# Altium footprint library ch55x.PcbLib: 25 footprints (part 2 of 2)
Each footprint in its own frame and in the unit in brackets; x right, y up, seen from the top. Pads: shape width x height; smd on the part's side, far side on the other; paste and mask are expansions set on the pad; w line width, h text height; cw(c..) or ccw(c..) is an arc to the next point about the centre after c.
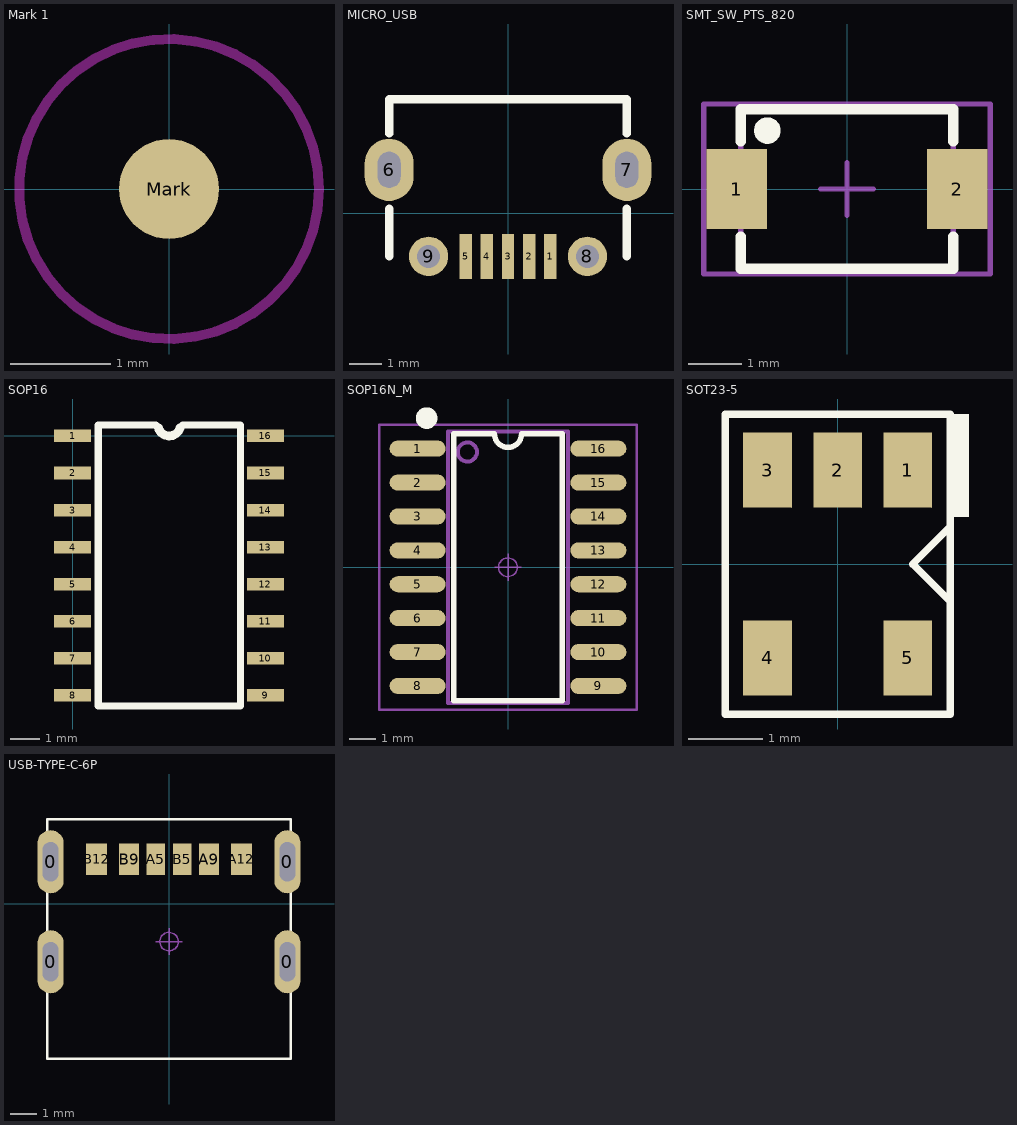
[diagram p1: the footprints below, top view; thin cyan lines are the x and y axes]

## Mark 1 [mm] "光学定位点，直径1mm"
pads (1):
  round 1 smd paste-1 mask+0.7: Mark(0,0)
Keep-Out Layer:
  circle w0.1: c0,0 r1.5

## MICRO_USB [mil]
pads (9):
  rect 15x54 smd: 1(51,-52) 2(25.5,-52) 3(0,-52) 4(-25.5,-52) 5(-51,-52)
  oval 59.06x74.8 hole 27.56 slot 43.31 at 90 deg: 6(-143,52) 7(143,52)
  round 47.24 hole 27.5: 8(95.5,-52) 9(-95.5,-52)
Top Overlay:
  lines w10: -142.72,-52 -142.72,5.28 ; -142.72,95.72 -142.72,136.98 142.72,136.98 142.72,95.72 ; 142.72,-52 142.72,5.28
3D body "User Library-Micro USB-B_Molex_105017-0001.step": height 105.31, standoff -24.61, extent -161.42,-61.33 161.41,152.44

## PCBComponent_1 [mm]

## PCBComponent_1 - duplicate [mm]

## SMT_SW_PTS_820 [mm] "SMT Tactile ?Switch PTS 820 Series"
height 2
pads (4):
  rect 1.143x1.5 smd: 1(-2.075,0) 2(2.075,0)
  round 0 all layers, no hole paste-2.54 mask-2.54: MH1(0,0.9) MH2(0,-0.9)
Top Overlay:
  circle w0.25: c-1.5,1.1 r0.125
  lines w0.2: -2,-0.9 -2,-1.5 2,-1.5 2,-0.9 ; -2,0.9 -2,1.5 2,1.5 2,0.9
Mechanical 13:
  lines w0.1: -2,-1.5 -2,1.5 2,1.5 2,-1.5 -2,-1.5
Mechanical 15:
  lines w0.1: -0.5,0 0.5,0 ; 0,-0.5 0,0.5 ; -2.7,-1.6 -2.7,1.6 2.7,1.6 2.7,-1.6 -2.7,-1.6
3D body "SMT Tactile Switch PTS-820.STEP": height 2.05, standoff -0.5, extent -2.25,-1.55 2.25,1.55

## SOP16 [mm]
height 8.2
pads (16):
  rect 1.27x0.43 smd: 1(0,0) 2(0,-1.27) 3(0,-2.54) 4(0,-3.81) 5(0,-5.08) 6(0,-6.35) 7(0,-7.62) 8(0,-8.89) 9(6.6,-8.89) 10(6.6,-7.62) 11(6.6,-6.35) 12(6.6,-5.08) 13(6.6,-3.81) 14(6.6,-2.54) 15(6.6,-1.27) 16(6.6,0)
Top Overlay:
  lines w0.254: 2.938,0.278 2.841,0.375 0.875,0.375 0.875,-9.25 5.75,-9.25 5.75,0.375 3.774,0.375 3.674,0.275
  lines w0.3: 2.938,0.278 ccw(c3.3,0.375) 3.3,0 ccw(c3.313,0.375) 3.674,0.275

## SOP16N_M [mm] "10.3*7*1.8mm（长宽高）"
height 1.75
pads (16):
  oval 2.1x0.6 smd: 1(-3.383,4.445) 2(-3.383,3.175) 3(-3.383,1.905) 4(-3.383,0.635) 5(-3.383,-0.635) 6(-3.383,-1.905) 7(-3.383,-3.175) 8(-3.383,-4.445) 9(3.383,-4.445) 10(3.383,-3.175) 11(3.383,-1.905) 12(3.383,-0.635) 13(3.383,0.635) 14(3.383,1.905) 15(3.383,3.175) 16(3.383,4.445)
Top Overlay:
  circle w0.5: c-3.048,5.588 r0.155
  lines w0.2: -2.032,5 -2.032,-5 2.032,-5 2.032,5
  lines w0.203: -2.032,5 -0.508,5 ccw(c0,5) 0,4.492 ccw(c0,5) 0.508,5 2.032,5
Mechanical 13:
  circle w0.15: c-1.524,4.318 r0.359
  lines w0.15: -2.25,-5.08 -2.25,5.08 2.25,5.08 2.25,-5.08 -2.25,-5.08
Mechanical 15:
  circle w0.05: c0,0 r0.35
  lines w0.05: -0.5,0 0.5,0 ; 0,-0.5 0,0.5
  lines w0.1: -4.826,-5.334 4.826,-5.334 4.826,5.334 -4.826,5.334 -4.826,-5.334
3D body "SOP16N.STEP": height 1.9, standoff 0, extent -3.503,-5.25 3.503,5.25

## SOT23-5 [mil]
height 47.24
pads (5):
  rect 26x40 smd: 1(37.4,50) 2(0,50) 3(-37.4,50) 4(-37.4,-50) 5(37.4,-50)
Top Overlay:
  rectangle: 60,25 70,80
  lines w4: 60,-20 40,0 60,20 ; -60,-80 -60,80 60,80 60,-80 -60,-80

## USB-TYPE-C-6P [mm]
pads (10):
  oval 1x2.4 hole 0.6 slot 1.5 at 90 deg: 0(-4.5,-2.2) 0(-4.5,1.6) 0(4.5,-2.2) 0(4.5,1.6)
  rect 0.7x1.2 smd: A5(-0.5,1.7) B5(0.5,1.7)
  rect 0.76x1.2 smd: A9(1.52,1.7) B9(-1.52,1.7)
  rect 0.8x1.2 smd: A12(2.75,1.7) B12(-2.75,1.7)
Top Overlay:
  lines w0.1: -4.625,-5.885 4.625,-5.885 4.625,3.215 -4.625,3.215 -4.625,-5.885
Mechanical 15:
  circle w0.05: c0,-1.435 r0.35
  lines w0.05: -0.5,-1.435 0.5,-1.435 ; 0,-1.935 0,-0.935
3D body "type-Cĸ?": height 3.35, standoff -0.9, extent -4.625,-5.885 4.625,3.215